# Altium footprint library SWDP_proj.PcbLib: 6 footprints
Each footprint in its own frame and in the unit in brackets; x right, y up, seen from the top. Pads: shape width x height; smd on the part's side, far side on the other; paste and mask are expansions set on the pad; w line width, h text height; cw(c..) or ccw(c..) is an arc to the next point about the centre after c.
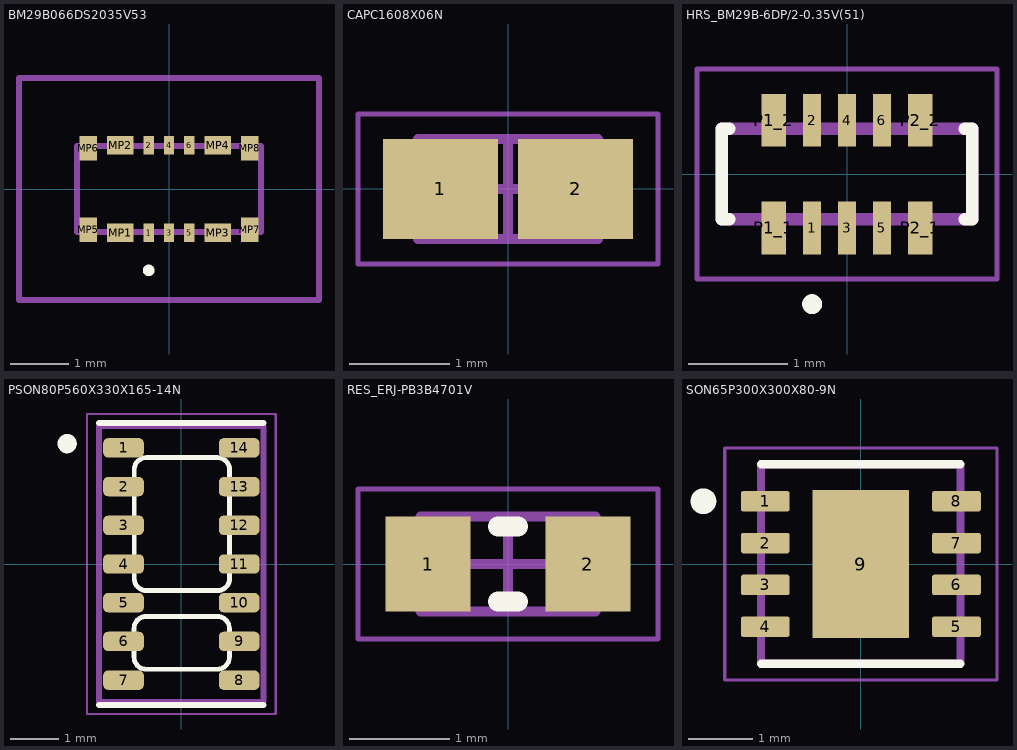
[diagram p0: the footprints below, top view; thin cyan lines are the x and y axes]

## BM29B066DS2035V53 [mm]
pads (14):
  rect 0.18x0.32 smd: 1(-0.35,-0.75) 2(-0.35,0.75) 3(0,-0.75) 4(0,0.75) 5(0.35,-0.75) 6(0.35,0.75)
  rect 0.46x0.32 smd: MP1(-0.84,-0.75) MP2(-0.84,0.75) MP3(0.84,-0.75) MP4(0.84,0.75)
  rect 0.3x0.42 smd: MP5(-1.39,-0.7) MP6(-1.39,0.7) MP7(1.39,-0.7) MP8(1.39,0.7)
Top Overlay:
  lines w0.1: -0.4,-1.4 ccw(c-0.35,-1.4) -0.3,-1.4 ccw(c-0.35,-1.4) -0.4,-1.4
Top Designator:
  text ".Designator" at -7.618,-0.508 h1.52
Top Assembly:
  lines w0.1: -1.58,-0.74 -1.58,0.74 1.58,0.74 1.58,-0.74 -1.58,-0.74
Top Courtyard:
  lines w0.1: -2.58,-1.91 2.58,-1.91 2.58,1.91 -2.58,1.91 -2.58,-1.91

## CAPC1608X06N [mm] "Chip Capacitor, 2-Leads, Body 1,60x0,80mm, IPC Medium Density"
height 0.55
pads (2):
  rect 1.15x1 smd: 1(-0.675,0) 2(0.675,0)
Top Designator:
  text ".Designator" at -7.618,-0.508 h1.52
Top Assembly:
  lines w0.1: -0.9,-0.5 0.9,-0.5 0.9,0.5 -0.9,0.5 -0.9,-0.5
Top Courtyard:
  lines w0.05: -1.5,-0.75 1.5,-0.75 1.5,0.75 -1.5,0.75 -1.5,-0.75
  lines w0.1: -0.5,0 0.5,0 ; 0,-0.5 0,0.5
3D body: height 0.55, standoff 0, extent 0.5,-0.5 0.9,0.5
3D body: height 0.55, standoff 0, extent -0.9,-0.5 -0.5,0.5
3D body: height 0.55, standoff 0, extent -0.5,-0.5 0.5,0.5

## HRS_BM29B-6DP/2-0.35V(51) [mm]
pads (10):
  rect 0.18x0.53 smd paste-1 mask+0.05: 1(-0.35,-0.54) 2(-0.35,0.54) 3(0,-0.54) 4(0,0.54) 5(0.35,-0.54) 6(0.35,0.54)
  rect 0.25x0.53 smd paste-1 mask+0.05: P1_1(-0.735,-0.54) P1_2(-0.735,0.54) P2_1(0.735,-0.54) P2_2(0.735,0.54)
Top Overlay:
  circle w0.1: c-0.35,-1.305 r0.05
  lines w0.127: -1.18,-0.455 -1.255,-0.455 -1.255,0.455 -1.18,0.455 ; 1.18,-0.455 1.255,-0.455 1.255,0.455 1.18,0.455
Top Paste:
  region: -0.61,-0.805 -0.86,-0.805 -0.86,-0.381 -0.61,-0.381
  region: -0.61,0.381 -0.86,0.381 -0.86,0.805 -0.61,0.805
  region: 0.86,-0.805 0.61,-0.805 0.61,-0.381 0.86,-0.381
  region: 0.86,0.381 0.61,0.381 0.61,0.805 0.86,0.805
  region: -0.26,-0.805 -0.44,-0.805 -0.44,-0.381 -0.26,-0.381
  region: -0.26,0.381 -0.44,0.381 -0.44,0.805 -0.26,0.805
  region: 0.09,-0.805 -0.09,-0.805 -0.09,-0.381 0.09,-0.381
  region: 0.09,0.381 -0.09,0.381 -0.09,0.805 0.09,0.805
  region: 0.44,-0.805 0.26,-0.805 0.26,-0.381 0.44,-0.381
  region: 0.44,0.381 0.26,0.381 0.26,0.805 0.44,0.805
Top Designator:
  text ".Designator" at -6.604,-0.508 h1.52
Top Assembly:
  lines w0.127: -1.255,-0.455 -1.255,0.455 1.255,0.455 1.255,-0.455 -1.255,-0.455
Top Courtyard:
  lines w0.05: -1.505,-1.055 1.505,-1.055 1.505,1.055 -1.505,1.055 -1.505,-1.055
3D body "step_temp.STEP": height 0.41, standoff 0, extent -1.255,-0.7 1.255,0.7

## PSON80P560X330X165-14N [mm]
pads (14):
  rrect50% 0.84x0.4 smd: 1(-1.195,2.4) 2(-1.195,1.6) 3(-1.195,0.8) 4(-1.195,0) 5(-1.195,-0.8) 6(-1.195,-1.6) 7(-1.195,-2.4) 8(1.195,-2.4) 9(1.195,-1.6) 10(1.195,-0.8) 11(1.195,0) 12(1.195,0.8) 13(1.195,1.6) 14(1.195,2.4)
Top Overlay:
  circle w0.2: c-2.361,2.488 r0.1
  circle w0.2: c-2.361,2.488 r0.1
  lines w0.1: -0.978,-1.926 ccw(c-0.728,-1.926) -0.728,-2.176 0.742,-2.176 ccw(c0.742,-1.926) 0.992,-1.926 0.992,-1.332 ccw(c0.742,-1.332) 0.742,-1.082 -0.728,-1.082 ccw(c-0.728,-1.332) -0.978,-1.332 -0.978,-1.926 ; -0.973,-0.3 ccw(c-0.723,-0.3) -0.723,-0.55 0.747,-0.55 ccw(c0.747,-0.3) 0.997,-0.3 0.997,1.95 ccw(c0.747,1.95) 0.747,2.2 -0.723,2.2 ccw(c-0.723,1.95) -0.973,1.95 -0.973,-0.3
  lines w0.127: -1.7,-2.914 1.7,-2.914 ; -1.7,2.914 1.7,2.914
Top Designator:
  text ".Designator" at -7.91,-0.508 h1.52
Top Assembly:
  lines w0.127: -1.7,-2.85 -1.7,2.85 1.7,2.85 1.7,-2.85 -1.7,-2.85
Top Courtyard:
  lines w0.05: -1.95,-3.1 -1.95,3.1 1.95,3.1 1.95,-3.1 -1.95,-3.1

## RES_ERJ-PB3B4701V [mm] "0603in resistor"
height 0.55
pads (2):
  rect 0.85x0.95 smd: 1(-0.8,0) 2(0.8,0)
Top Overlay:
  lines w0.2: -0.1,-0.375 0.1,-0.375 ; -0.1,0.375 0.1,0.375
Top Designator:
  text ".Designator" at -7.618,-0.508 h1.52
Top Assembly:
  lines w0.1: -0.875,-0.475 0.875,-0.475 0.875,0.475 -0.875,0.475 -0.875,-0.475
Top Courtyard:
  lines w0.05: -1.5,-0.75 1.5,-0.75 1.5,0.75 -1.5,0.75 -1.5,-0.75
  lines w0.1: -0.475,0 0.475,0 ; 0,-0.475 0,0.475
3D body: height 0.55, standoff 0, extent 0.625,-0.475 0.875,0.475
3D body: height 0.55, standoff 0, extent -0.875,-0.475 -0.625,0.475
3D body: height 0.55, standoff 0, extent -0.625,-0.475 0.625,0.475

## SON65P300X300X80-9N [mm]
pads (9):
  rrect25% 0.76x0.32 smd: 1(-1.485,0.975) 2(-1.485,0.325) 3(-1.485,-0.325) 4(-1.485,-0.975) 5(1.485,-0.975) 6(1.485,-0.325) 7(1.485,0.325) 8(1.485,0.975)
  rect 1.5x2.3 smd paste-2: 9(0,0)
Top Overlay:
  circle w0.2: c-2.445,0.975 r0.1
  lines w0.127: -1.55,-1.55 1.55,-1.55 ; -1.55,1.55 1.55,1.55
Top Paste:
  region: 0.47,-0.73 -0.47,-0.73 -0.47,0.73 0.47,0.73
Top Designator:
  text ".Designator" at -7.87,-0.508 h1.52
Top Assembly:
  lines w0.127: -1.55,-1.55 -1.55,1.55 1.55,1.55 1.55,-1.55 -1.55,-1.55
Top Courtyard:
  lines w0.05: -2.115,-1.8 2.115,-1.8 2.115,1.8 -2.115,1.8 -2.115,-1.8
3D body "step_temp.STEP": height 0.8, standoff 0, extent -1.5,-1.5 1.5,1.5